# EAGLE library part LT3420 (library PowerProducts)
LT-Spice library generated with : ltspice.ulp from: E:/Programme/LTC/LTspiceIV/lib/sym/PowerProducts/LT3420-1*.asy at 05.10.2012 11:12:22
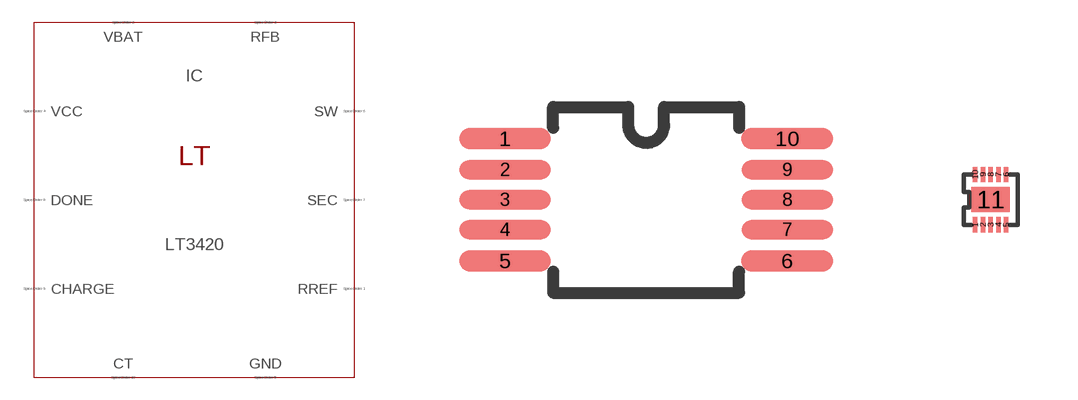
[diagram p32: symbol with the pads of MSOP10(MS); footprints MSOP10(MS), DFN10(DD)]

Designator prefix IC

## LT3420MS (SPICEMODEL: LT1762.lib; SPICEPREFIX: X; VALUE2: LT1762)  [MSOP10(MS)]
1  RREF  pas
2  VBAT  pas
3  RFB  pas
4  VCC  pas
5  GND  pas
6  SW  pas
7  SEC  pas
8  DONE  pas
9  CHARGE  pas
10  CT  pas

## LT3420 (SPICEMODEL: LT1762.lib; SPICEPREFIX: X; VALUE2: LT1762)  [DFN10(DD)]
1  RREF  pas
2  VBAT  pas
3  RFB  pas
4  VCC  pas
5  GND  pas
6  SW  pas
7  SEC  pas
8  DONE  pas
9  CHARGE  pas
10  CT  pas
11  GND  pas

## Footprint MSOP10(MS) (pad centres in mm)
Package generated from: MSOP10(MS).asc (!PADS-POWERPCB-V5.0-BASIC! DESIGN DATABASE ASCII FILE 1.0) with :import-pads-powerpcb-v5.ulp Version 1.0.1 at 04.10.2012 14:11:19
smd 2.295 x 0.54: 1 -3.529,1.53; 5 -3.529,-1.53; 6 3.529,-1.53; 10 3.529,1.53
smd 2.295 x 0.48: 2 -3.529,0.75; 3 -3.529,0; 4 -3.529,-0.75; 7 3.529,-0.75; 8 3.529,0; 9 3.529,0.75

## Footprint DFN10(DD) (pad centres in mm)
Package generated from: DFN10(DD).asc (!PADS-POWERPCB-V9.3-BASIC! DESIGN DATABASE ASCII FILE 1.0) with :import-pads-powerpcb-v5.ulp Version 1.0.1 at 04.10.2012 14:11:16
smd 0.116 x 0.387: 1 -0.387,-0.629; 2 -0.194,-0.629; 3 0,-0.629; 4 0.194,-0.629; 5 0.387,-0.629; 6 0.387,0.629; 7 0.194,0.629; 8 0,0.629; 9 -0.194,0.629; 10 -0.387,0.629
smd 0.968 x 0.629: 11 0,0